# Altium footprint library CONN_1734753-1.PcbLib: 1 footprints
Each footprint in its own frame and in the unit in brackets; x right, y up, seen from the top. Pads: shape width x height; smd on the part's side, far side on the other; paste and mask are expansions set on the pad; w line width, h text height; cw(c..) or ccw(c..) is an arc to the next point about the centre after c.
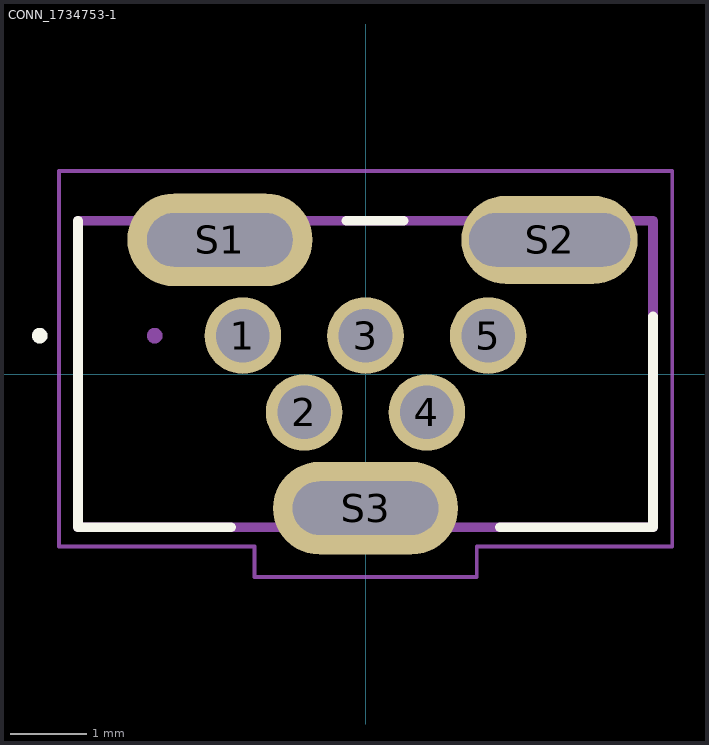
[diagram p0: the footprint, top view; thin cyan lines are the x and y axes]

## CONN_1734753-1 [mm]
pads (8):
  round 1 hole 0.7: 1(-1.6,0.5) 2(-0.8,-0.5) 3(0,0.5) 4(0.8,-0.5) 5(1.6,0.5)
  oval 2.416x1.208 hole 0.7 slot 1.9 at 0 deg: S1(-1.9,1.75) S3(0,-1.75)
  oval 2.3x1.15 hole 0.7 slot 2.1 at 0 deg: S2(2.4,1.75)
Top Overlay:
  circle w0.102: c-4.25,0.5 r0.051
  lines w0.127: -3.75,2 -3.75,-2 -1.75,-2 ; -0.25,2 0.5,2 ; 1.75,-2 3.75,-2 3.75,0.75
Mechanical 13:
  circle w0.102: c-2.75,0.5 r0.051
  lines w0.127: -3.75,-2 3.75,-2 3.75,2 -3.75,2 -3.75,-2
Mechanical 15:
  lines w0.05: -4,-2.25 -1.45,-2.25 -1.45,-2.65 1.45,-2.65 1.45,-2.25 4,-2.25 4,2.65 -4,2.65 -4,-2.25
3D body "1734753-1.step": height 8.81, standoff -2.49, extent -3.937,-1.905 3.763,2.185